# EAGLE library part PCF8523_RTC (library IotaWatt4.8)
PCF8523-RTC SOIC-8
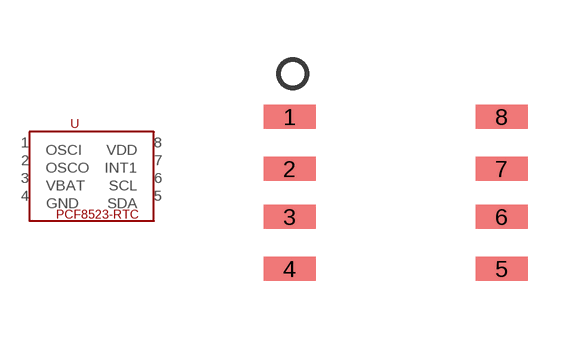
[diagram p2: symbol with the pads of SOIC_8; footprint SOIC_8]

Designator prefix -

## PCF8523_RTC  [SOIC_8]
1  OSCI
2  OSCO
3  VBAT
4  GND
5  SDA
6  SCL
7  INT1
8  VDD

## Footprint SOIC_8 (pad centres in mm)
SOIC_8 for PCF8523 RTC
smd 1.3 x 0.6: 1 -2.6,1.9; 2 -2.6,0.6; 3 -2.6,-0.6; 4 -2.6,-1.9; 5 2.7,-1.9; 6 2.7,-0.6; 7 2.7,0.6; 8 2.7,1.9